# Altium footprint library IPC-7352 Chip_Capacitor_N.PcbLib: 13 footprints
Each footprint in its own frame and in the unit in brackets; x right, y up, seen from the top. Pads: shape width x height; smd on the part's side, far side on the other; paste and mask are expansions set on the pad; w line width, h text height; cw(c..) or ccw(c..) is an arc to the next point about the centre after c.
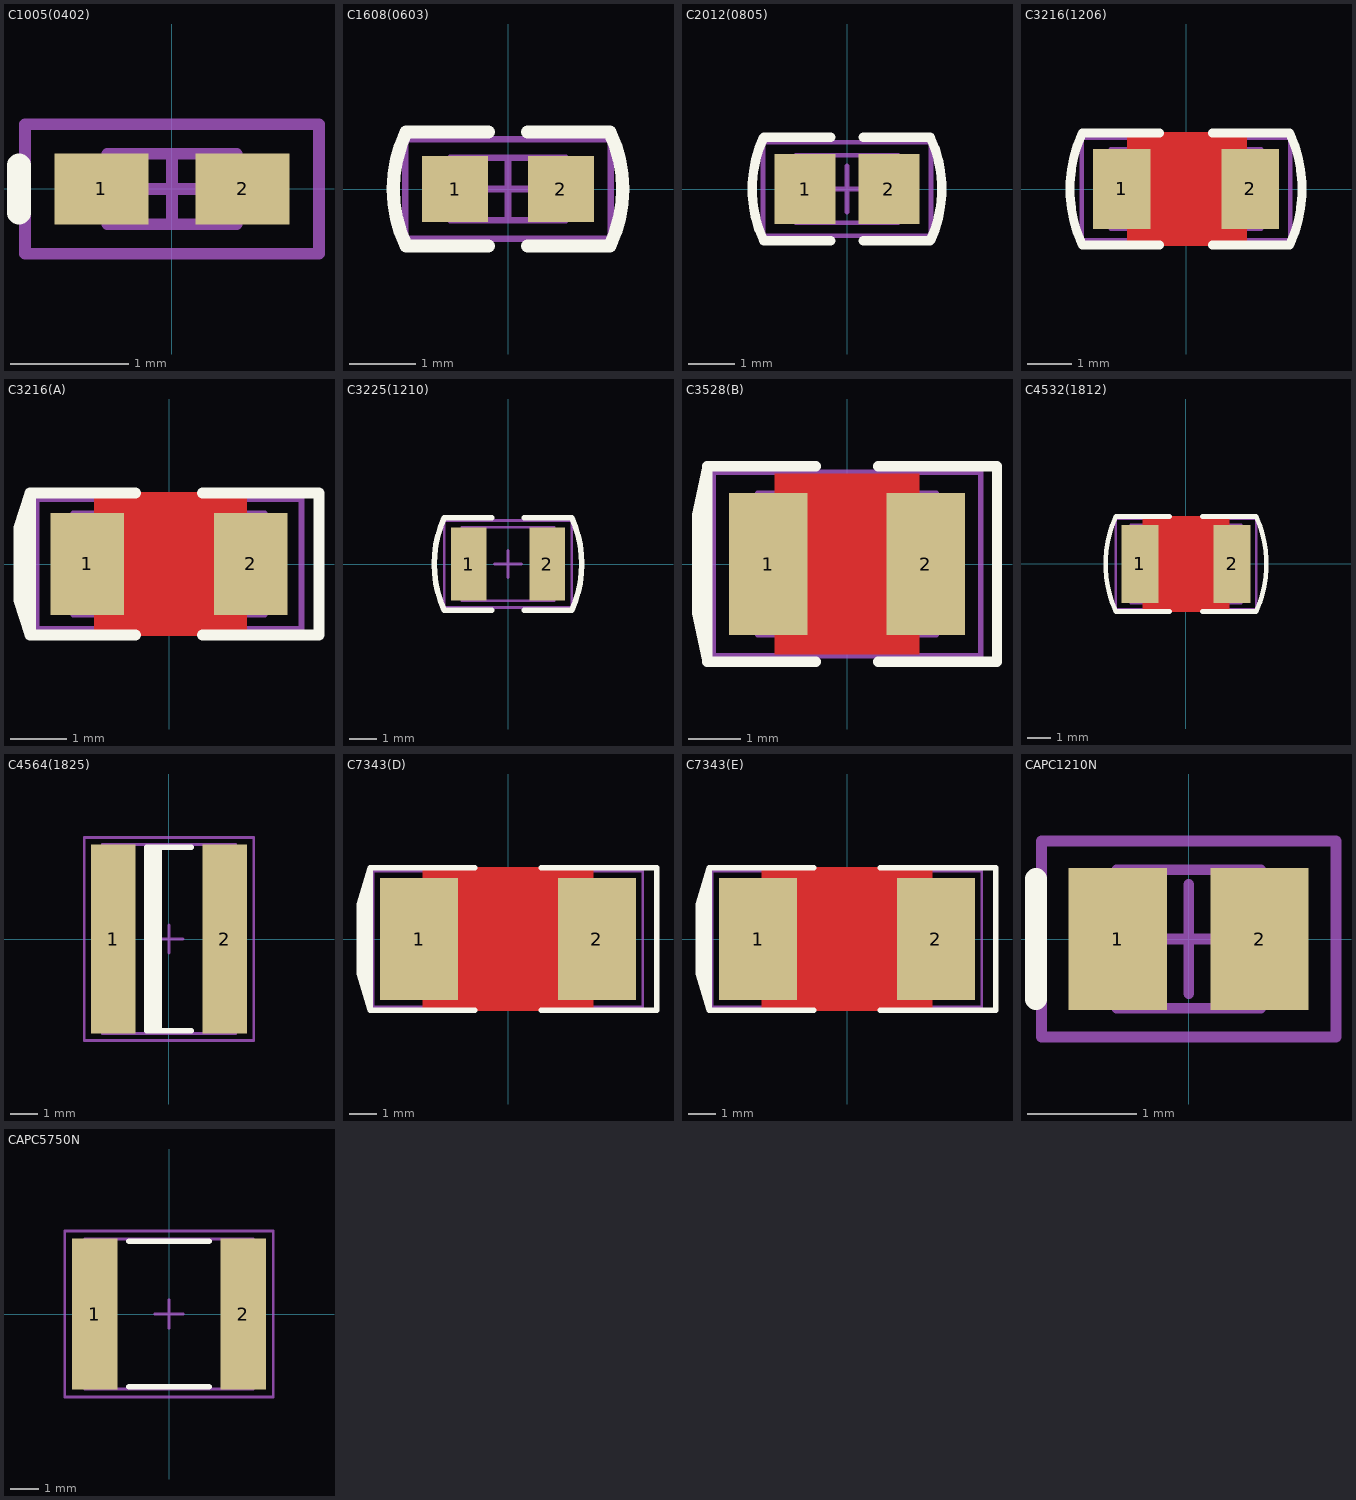
[diagram p0: the footprints below, top view; thin cyan lines are the x and y axes]

## C1005(0402) [mm] "Chip Capacitor, Body 1.0x0.5mm, IPC Medium Density"
height 0.6
pads (2):
  rect 0.8x0.6 smd: 1(-0.6,0) 2(0.6,0)
Top Overlay:
  lines w0.2: -1.3,-0.2 -1.3,0.2
Mechanical 13:
  lines w0.1: -0.55,-0.3 -0.55,0.3 0.55,0.3 0.55,-0.3 -0.55,-0.3
Mechanical 15:
  lines w0.1: -0.3,0 0.3,0 ; 0,-0.3 0,0.3 ; -1.25,-0.55 -1.25,0.55 1.25,0.55 1.25,-0.55 -1.25,-0.55
3D body: height 0.6, standoff 0, extent -0.55,-0.3 0.55,0.3

## C1608(0603) [mm] "Chip Capacitor, Body 1.6x0.8mm, IPC Medium Density"
height 0.85
pads (2):
  rect 1x1 smd: 1(-0.8,0) 2(0.8,0)
Top Overlay:
  lines w0.2: -1.54,-0.86 -0.3,-0.86 ; -1.541,0.856 ccw(c0.267,0) -1.539,-0.859 ; -1.54,0.86 -0.3,0.86 ; 0.3,-0.86 1.54,-0.86 ; 0.3,0.86 1.54,0.86 ; 1.539,0.859 cw(c-0.267,0) 1.541,-0.856
Mechanical 13:
  lines w0.1: -0.875,-0.475 -0.875,0.475 0.875,0.475 0.875,-0.475 -0.875,-0.475
Mechanical 15:
  lines w0.1: -0.475,0 0.475,0 ; 0,-0.475 0,0.475 ; -1.55,-0.75 -1.55,0.75 1.55,0.75 1.55,-0.75 -1.55,-0.75
3D body: height 0.85, standoff 0, extent -0.875,-0.475 0.875,0.475

## C2012(0805) [mm] "Chip Capacitor, Body 2.0x1.3mm, IPC Medium Density"
height 1.1
pads (2):
  rect 1.3x1.5 smd: 1(-0.9,0) 2(0.9,0)
Top Overlay:
  lines w0.2: -1.79,1.105 ccw(c0.591,0) -1.788,-1.108 ; -1.78,-1.11 -0.35,-1.11 ; -1.78,1.11 -0.35,1.11 ; 0.35,-1.11 1.78,-1.11 ; 0.35,1.11 1.78,1.11 ; 1.788,1.108 cw(c-0.591,0) 1.79,-1.105
Mechanical 13:
  lines w0.1: -1.1,-0.725 -1.1,0.725 1.1,0.725 1.1,-0.725 -1.1,-0.725
Mechanical 15:
  lines w0.1: -0.5,0 0.5,0 ; 0,-0.5 0,0.5 ; -1.8,-1 -1.8,1 1.8,1 1.8,-1 -1.8,-1
3D body: height 1.1, standoff 0, extent -1.1,-0.725 1.1,0.725

## C3216(1206) [mm] "Chip Capacitor, Body 3.2x1.6mm, IPC Medium Density"
height 1.35
pads (2):
  rect 1.3x1.8 smd: 1(-1.45,0) 2(1.45,0)
Top Layer:
  pour cut-out: -1.325,1.275 1.375,1.275 1.375,-1.275 -1.325,-1.275
Top Overlay:
  lines w0.2: -2.34,1.26 -0.6,1.26 ; -2.34,-1.259 cw(c0.383,0) -2.34,1.259 ; -2.33,-1.26 -0.6,-1.26 ; 0.6,-1.26 2.34,-1.26 ; 0.6,1.26 2.33,1.26 ; 2.34,-1.259 ccw(c-0.383,0) 2.34,1.259
Mechanical 13:
  lines w0.1: -1.7,-0.9 -1.7,0.9 1.7,0.9 1.7,-0.9 -1.7,-0.9
Mechanical 15:
  lines w0.1: -0.5,0 0.5,0 ; 0,-0.5 0,0.5 ; -2.35,-1.15 -2.35,1.15 2.35,1.15 2.35,-1.15 -2.35,-1.15
3D body: height 1.35, standoff 0, extent -1.7,-0.9 1.7,0.9

## C3216(A) [mm] "Chip Capacitor, Body 3.2x1.6mm, IPC Medium Density"
height 1.35
pads (2):
  rect 1.3x1.8 smd: 1(-1.45,0) 2(1.45,0)
Top Layer:
  pour cut-out: -1.325,1.275 1.375,1.275 1.375,-1.275 -1.325,-1.275
Top Overlay:
  lines w0.2: -2.56,-0.8 -2.56,0.8 ; -2.46,-1.2 -2.46,1.2 ; -0.6,-1.26 -2.46,-1.26 -2.66,-0.63 -2.66,0.63 -2.46,1.26 -0.6,1.26 ; 0.6,-1.26 2.66,-1.26 2.66,1.26 0.6,1.26
Mechanical 13:
  lines w0.1: -1.7,-0.9 -1.7,0.9 1.7,0.9 1.7,-0.9 -1.7,-0.9
Mechanical 15:
  lines w0.1: -0.5,0 0.5,0 ; 0,-0.5 0,0.5 ; -2.35,-1.15 -2.35,1.15 2.35,1.15 2.35,-1.15 -2.35,-1.15
3D body: height 1.35, standoff 0, extent -1.7,-0.9 1.7,0.9

## C3225(1210) [mm] "Chip Capacitor, Body 3.2x2.5mm, IPC Medium Density"
height 1.35
pads (2):
  rect 1.3x2.7 smd: 1(-1.45,0) 2(1.45,0)
Top Overlay:
  lines w0.2: -2.351,-1.705 cw(c1.405,0) -2.351,1.705 ; -2.34,-1.71 -0.6,-1.71 ; -2.34,1.71 -0.6,1.71 ; 0.6,-1.71 2.34,-1.71 ; 0.6,1.71 2.34,1.71 ; 2.351,-1.705 ccw(c-1.405,0) 2.351,1.705
Mechanical 13:
  lines w0.1: -1.7,-1.35 1.7,-1.35 1.7,1.35 -1.7,1.35 -1.7,-1.35
Mechanical 15:
  lines w0.1: -0.5,0 0.5,0 ; 0,-0.5 0,0.5 ; -2.35,-1.6 2.35,-1.6 2.35,1.6 -2.35,1.6 -2.35,-1.6
3D body: height 1.35, standoff 0, extent -1.7,-1.35 1.7,1.35

## C3528(B) [mm] "Chip Capacitor, Body 3.5x2.8mm, IPC Medium Density"
height 1.35
pads (2):
  rect 1.5x2.7 smd: 1(-1.5,0) 2(1.5,0)
Top Layer:
  pour cut-out: -1.375,1.725 1.375,1.725 1.375,-1.725 -1.375,-1.725
Top Overlay:
  lines w0.2: -2.76,-1.2 -2.76,1.2 ; -0.6,-1.86 -2.66,-1.86 ; -0.6,1.86 -2.66,1.86 ; 0.6,-1.86 2.86,-1.86 2.86,1.86 0.6,1.86 ; -2.66,-1.86 -2.86,-0.93 -2.86,0.93 -2.66,1.86 ; -2.66,-1.86 -2.66,1.86
Mechanical 13:
  lines w0.1: -1.7,-1.35 1.7,-1.35 1.7,1.35 -1.7,1.35 -1.7,-1.35
Mechanical 15:
  lines w0.1: -0.5,0 0.5,0 ; 0,-0.5 0,0.5 ; -2.55,-1.75 2.55,-1.75 2.55,1.75 -2.55,1.75 -2.55,-1.75
3D body: height 1.35, standoff 0, extent -1.7,-1.35 1.7,1.35

## C4532(1812) [mm] "Chip Capacitor, Body 4.5x3.2mm, IPC Medium Density"
height 1.35
pads (2):
  rect 1.6x3.4 smd: 1(-2,0) 2(2,0)
Top Layer:
  pour cut-out: -1.875,2.075 1.875,2.075 1.875,-2.075 -1.875,-2.075
Top Overlay:
  lines w0.2: -3.049,-2.054 cw(c1.51,0) -3.047,2.058 ; -3.04,-2.06 -0.7,-2.06 ; -3.04,2.06 -0.7,2.06 ; 0.7,-2.06 3.04,-2.06 ; 0.7,2.06 3.04,2.06 ; 3.047,-2.058 ccw(c-1.51,0) 3.049,2.054
Mechanical 13:
  lines w0.1: -2.4,-1.7 -2.4,1.7 2.4,1.7 2.4,-1.7 -2.4,-1.7
Mechanical 15:
  lines w0.1: -0.5,0 0.5,0 ; 0,-0.5 0,0.5 ; -3.05,-1.95 -3.05,1.95 3.05,1.95 3.05,-1.95 -3.05,-1.95
3D body: height 0.71, standoff 0, extent -2.4,-1.7 2.4,1.7

## C4564(1825) [mm] "Chip Capacitor, Body 4.5x6.4mm, IPC Medium Density"
height 1.1
pads (2):
  rect 1.6x6.8 smd: 1(-2,0) 2(2,0)
Top Overlay:
  rectangle: -0.8,-3.3 -0.25,3.3
  lines w0.2: 0.8,-3.3 -0.8,-3.3 -0.8,3.3 0.8,3.3
Mechanical 13:
  lines w0.1: -2.4,-3.4 2.4,-3.4 2.4,3.4 -2.4,3.4 -2.4,-3.4
Mechanical 15:
  lines w0.1: -0.5,0 0.5,0 ; 0,-0.5 0,0.5 ; -3.05,-3.65 3.05,-3.65 3.05,3.65 -3.05,3.65 -3.05,-3.65
3D body: height 1.1, standoff 0, extent -2.4,-3.4 2.4,3.4

## C7343(D) [mm] "Chip Capacitor, Body 7.3x4.3mm, IPC Medium Density"
height 3.1
pads (2):
  rect 2.8x4.4 smd: 1(-3.2,0) 2(3.2,0)
Top Layer:
  pour cut-out: -3.075,2.575 -3.075,-2.575 3.075,-2.575 3.075,2.575
Top Overlay:
  lines w0.2: -5.25,-1.28 -5.25,1.28 ; -5.16,-1.7 -5.16,1.7 ; -5.06,-2 -5.06,2 ; -1.2,-2.56 -4.96,-2.56 ; -1.2,2.56 -4.96,2.56 ; 1.2,-2.56 5.36,-2.56 5.36,2.56 1.2,2.56 ; -4.96,-2.56 -4.96,2.56 ; -4.96,-2.56 -5.36,-1.247 -5.36,1.247 -4.96,2.56
Mechanical 13:
  lines w0.1: -3.65,-2.15 3.65,-2.15 3.65,2.15 -3.65,2.15 -3.65,-2.15
Mechanical 15:
  lines w0.1: -0.5,0 0.5,0 ; 0,-0.5 0,0.5 ; -4.85,-2.45 4.85,-2.45 4.85,2.45 -4.85,2.45 -4.85,-2.45
3D body: height 4.1, standoff 0, extent -3.65,-2.15 3.65,2.15

## C7343(E) [mm] "Chip Capacitor, Body 7.3x4.3mm, IPC Medium Density"
height 4.3
pads (2):
  rect 2.8x4.4 smd: 1(-3.2,0) 2(3.2,0)
Top Layer:
  pour cut-out: -3.075,2.575 -3.075,-2.575 3.075,-2.575 3.075,2.575
Top Overlay:
  lines w0.2: -5.25,-1.28 -5.25,1.28 ; -5.16,-1.7 -5.16,1.7 ; -5.06,-2 -5.06,2 ; -1.2,-2.56 -4.96,-2.56 ; -1.2,2.56 -4.96,2.56 ; 1.2,-2.56 5.36,-2.56 5.36,2.56 1.2,2.56 ; -4.96,-2.56 -4.96,2.56 ; -4.96,-2.56 -5.36,-1.247 -5.36,1.247 -4.96,2.56
Mechanical 13:
  lines w0.1: -3.65,-2.15 3.65,-2.15 3.65,2.15 -3.65,2.15 -3.65,-2.15
Mechanical 15:
  lines w0.1: -0.5,0 0.5,0 ; 0,-0.5 0,0.5 ; -4.85,-2.45 4.85,-2.45 4.85,2.45 -4.85,2.45 -4.85,-2.45
3D body: height 4.1, standoff 0, extent -3.65,-2.15 3.65,2.15

## CAPC1210N [mm] "Chip Capacitor, Body 1.2x1.0mm, IPC Medium Density"
height 1.02
pads (2):
  rect 0.9x1.3 smd: 1(-0.65,0) 2(0.65,0)
Top Overlay:
  lines w0.2: -1.4,-0.55 -1.4,0.55
Mechanical 13:
  lines w0.1: -0.66,-0.635 -0.66,0.635 0.66,0.635 0.66,-0.635 -0.66,-0.635
Mechanical 15:
  lines w0.1: -0.5,0 0.5,0 ; 0,-0.5 0,0.5 ; -1.35,-0.9 -1.35,0.9 1.35,0.9 1.35,-0.9 -1.35,-0.9
3D body: height 1.02, standoff 0, extent -0.66,-0.635 0.66,0.635

## CAPC5750N [mm] "Chip Capacitor, Body 5.7x5.0mm, IPC Medium Density"
height 1.35
pads (2):
  rect 1.6x5.3 smd: 1(-2.6,0) 2(2.6,0)
Top Overlay:
  lines w0.2: -1.4,-2.55 1.4,-2.55 ; -1.4,2.55 1.4,2.55
Mechanical 13:
  lines w0.1: -2.95,-2.625 -2.95,2.625 2.95,2.625 2.95,-2.625 -2.95,-2.625
Mechanical 15:
  lines w0.1: -0.5,0 0.5,0 ; 0,-0.5 0,0.5 ; -3.65,-2.9 -3.65,2.9 3.65,2.9 3.65,-2.9 -3.65,-2.9
3D body: height 1.35, standoff 0, extent -2.95,-2.625 2.95,2.625